# EAGLE library part SR4W035 (library SR4W035)
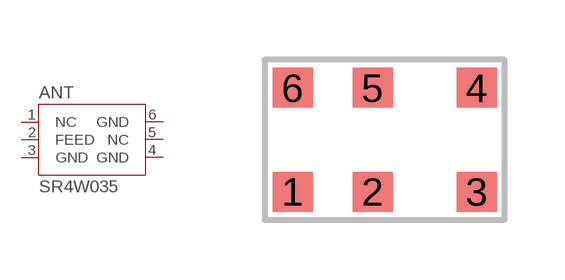
[diagram p0: symbol with the pads of SR4W035; footprint SR4W035]

Designator prefix ANT

## SR4W035  [SR4W035]
1  NC  nc
2  FEED
3  GND
4  GND
5  NC  nc
6  GND

## Footprint SR4W035 (pad centres in mm)
smd 1 x 1: 1 -2.04,-1.338; 2 -0.04,-1.338; 3 2.56,-1.338; 4 2.56,1.262; 5 -0.04,1.262; 6 -2.04,1.262